# Altium footprint library LED RGB APHF1608SEEQBDZGKC_KNB-L.PcbLib: 1 footprints
Each footprint in its own frame and in the unit in brackets; x right, y up, seen from the top. Pads: shape width x height; smd on the part's side, far side on the other; paste and mask are expansions set on the pad; w line width, h text height; cw(c..) or ccw(c..) is an arc to the next point about the centre after c.
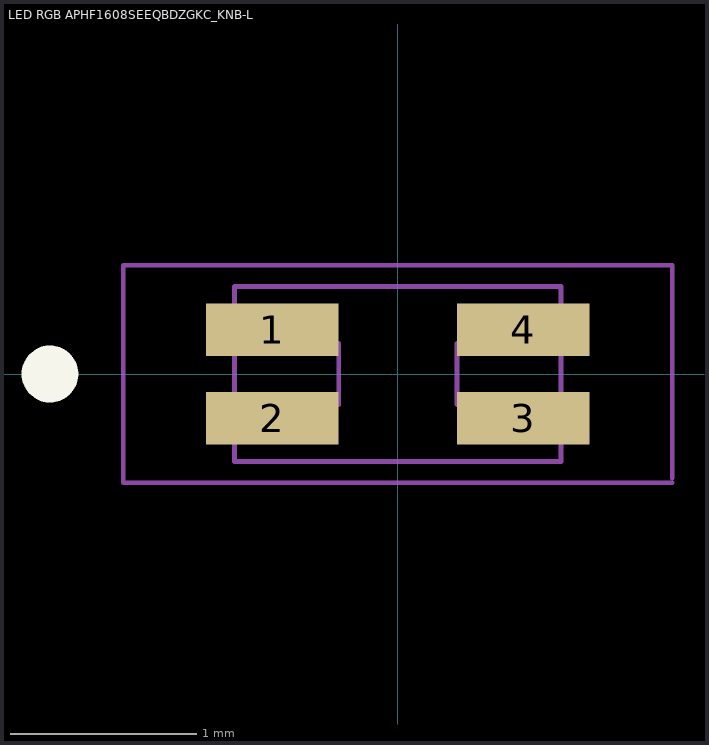
[diagram p0: the footprint, top view; thin cyan lines are the x and y axes]

## LED RGB APHF1608SEEQBDZGKC_KNB-L [mil]
pads (4):
  rect 28x11 smd paste+0 mask+0: 1(-26.5,9.35) 2(-26.5,-9.35) 3(26.5,-9.35) 4(26.5,9.35)
Top Overlay:
  circle w6: c-73.5,0 r3
Mechanical 13:
  circle w0: c-21.5,9.35 r3
  lines w1: -34.5,-18.5 -34.5,18.5 34.5,18.5 34.5,-18.5 -34.5,-18.5 ; -34.5,-6.5 -12.5,-6.5 -12.5,6.5 -34.5,6.5 -34.5,-6.5 ; 12.5,-6.5 34.5,-6.5 34.5,6.5 12.5,6.5 12.5,-6.5
Mechanical 15:
  lines w0.98: 58,-23 -58,-23 -58,23 58,23 58,-22
3D body "APHF1608.STEP": height 23.13, standoff 3.44, extent -31.49,-15.75 31.5,15.74
3D body: height 10, standoff 0, extent -56,-21 56,21